# EAGLE library part I__4512 (library ..SMD)
8-channel DATA SELECTOR Inhibit function corrected - 2005.10.04 librarian@cadsoft.de
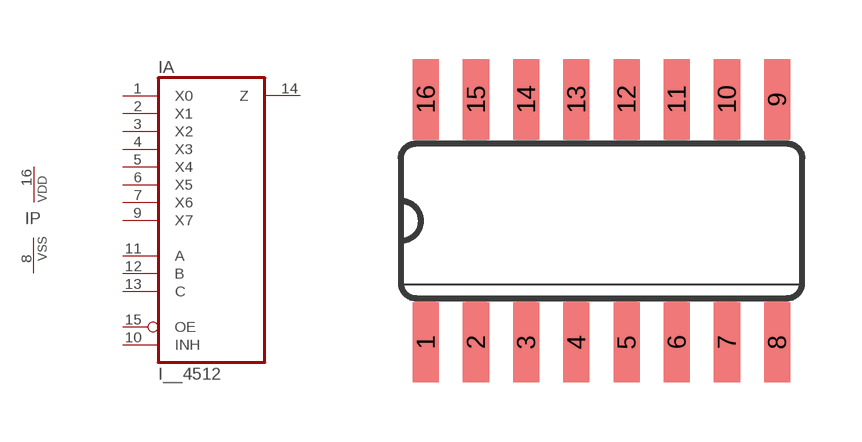
[diagram p100: symbol with the pads of SO16; footprint SO16]

Designator prefix I; gates A=4512 P=PWRN

## I__4512D  [SO16]
1  A:X0  in
2  A:X1  in
3  A:X2  in
4  A:X3  in
5  A:X4  in
6  A:X5  in
7  A:X6  in
8  P:VSS  pwr
9  A:X7  in
10  A:INH  in
11  A:A  in
12  A:B  in
13  A:C  in
14  A:Z  hiz
15  A:OE  in
16  P:VDD  pwr

## Footprint SO16 (pad centres in mm)
Small Outline Package 16
smd 0.66 x 2.032: 1 -4.445,-3.073; 2 -3.175,-3.073; 3 -1.905,-3.073; 4 -0.635,-3.073; 5 0.635,-3.073; 6 1.905,-3.073; 7 3.175,-3.073; 8 4.445,-3.073; 9 4.445,3.073; 10 3.175,3.073; 11 1.905,3.073; 12 0.635,3.073; 13 -0.635,3.073; 14 -1.905,3.073; 15 -3.175,3.073; 16 -4.445,3.073